# EAGLE library part LMH5401IRMST (library LMH5401IRMST)
Texas Instruments LMH5401IRMST, RF Amplifier Differential, 14-Pin UQFN Source: Datasheet <http://www.ti.com/lit/gpn/lmh5401>
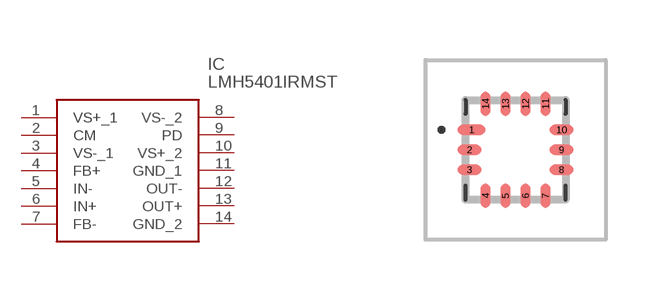
[diagram p0: symbol with the pads of LMH5401IRMSR; footprint LMH5401IRMSR]

Designator prefix IC

## LMH5401IRMST (Description: Texas Instruments LMH5401IRMST, RF Amplifier Differential, 14-Pin UQFN; Height: 0.6mm; Manufacturer_Name: Texas Instruments; Manufacturer_Part_Number: LMH5401IRMST; Mouser_Part_Number: 595-LMH5401IRMST; Mouser_Price-Stock: https://www.mouser.co.uk/ProductDetail/Texas-Instruments/LMH5401IRMST?qs=pV2tVPdcZ6z49pjv7lt75w%3D%3D)  [LMH5401IRMSR]
1  VS+_1
2  CM
3  VS-_1
4  FB+
5  IN-
6  IN+
7  FB-
8  VS-_2
9  PD
10  VS+_2
11  GND_1
12  OUT-
13  OUT+
14  GND_2

## Footprint LMH5401IRMSR (pad centres in mm)
RMS0014A_ffw
smd 0.7 x 0.25: 1 -1.1,0.5
smd 0.6 x 0.25: 2 -1.15,0; 3 -1.15,-0.5; 8 1.15,-0.5; 9 1.15,0; 10 1.15,0.5
smd 0.25 x 0.6: 4 -0.75,-1.15; 5 -0.25,-1.15; 6 0.25,-1.15; 7 0.75,-1.15; 11 0.75,1.15; 12 0.25,1.15; 13 -0.25,1.15; 14 -0.75,1.15